# Altium integrated library RAC10-12SK_277.IntLib: 1 symbol
Pins are listed as number, name and electrical type; pins without a type are passive.

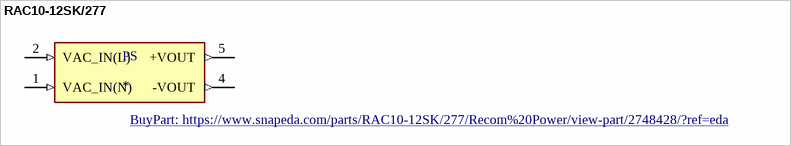
[diagram p0: symbol RAC10-12SK/277]

## RAC10-12SK/277
designator PS
10W AC/DC-Converter 'POWERLINE' 2x1 4kV reg; MF: Recom Power; MP: RAC10-12SK/277; Package: DIP-4 Recom Power; Value: *; Availability: Unavailable; SnapEDA_Link: https://www.snapeda.com/parts/RAC10-12SK/277/Recom%20Power/view-part/2748428/?ref=snap; Price: None; BuyPart: https://www.snapeda.com/parts/RAC10-12SK/277/Recom%20Power/view-part/2748428/?ref=eda
footprint CONV_RAC10-12SK/277
pins: 1 VAC_IN(N) (in), 2 VAC_IN(L) (in), 4 -VOUT (out), 5 +VOUT (out)